# Altium integrated library Capacitor - Aluminium TH.IntLib: 4591 symbols (part 42 of 68)
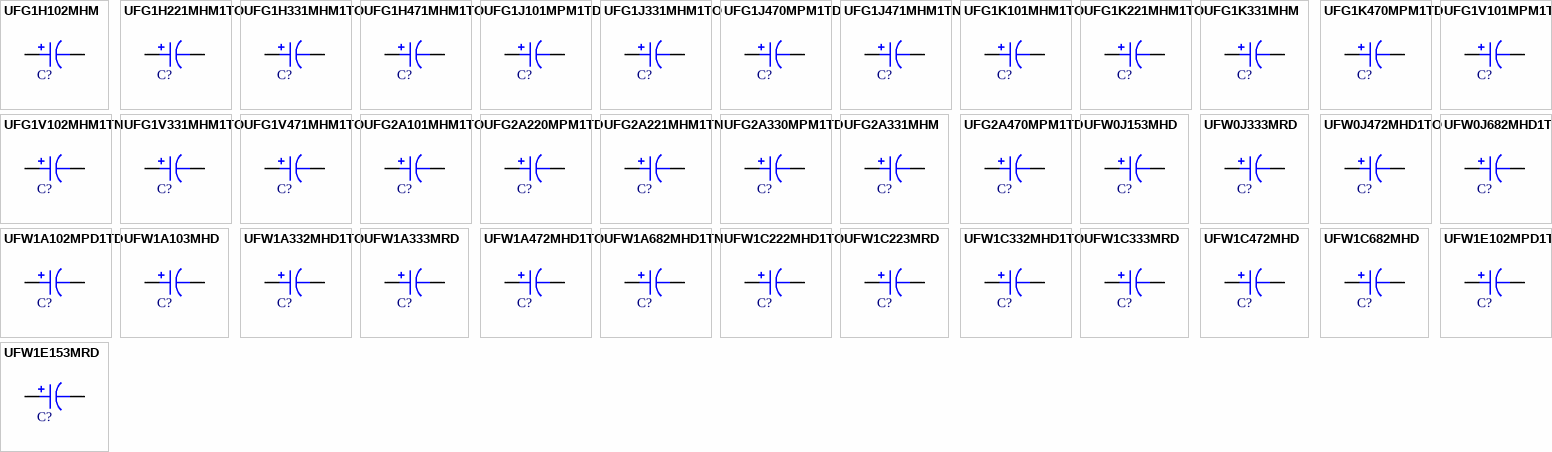
[diagram p155: symbols UFG1H102MHM to UFW1E153MRD]

## UFG1V331MHM1TO
designator C?, comment 330uF  (value not drawn)
CAP ALUM 330UF 20% 35V RADIAL; Part Number: UFG1V331MHM1TO; Manufacturer: Nichicon; TemperatureRange: -40C ~ 85C; Type: Polar; Ripple Current: 446mA; Value: 330uF; PartId: 23405; Supplier 1: Digi-Key; Supplier Part Number 1: 493-10913-1-ND; ComponentLink1Description: Datasheet; ComponentLink1URL: http://nichicon-us.com/english/products/pdfs/e-ufg.pdf; ComponentLink2Description: Digi-Key Listing; ComponentLink2URL: https://www.digikey.com/product-detail/en/nichicon/UFG1V331MHM1TO/493-10913-1-ND/4317840; Tolerance: 20%; Voltage: 35V; Price: 0.98; Device Package: Radial, Can, 12.5mm
footprint CAP AL TH D12.5 L5 H22
pins: 1, 2

## UFG1V471MHM1TO
designator C?, comment 470uF  (value not drawn)
CAP ALUM 470UF 20% 35V RADIAL; Part Number: UFG1V471MHM1TO; Manufacturer: Nichicon; TemperatureRange: -40C ~ 85C; Type: Polar; Ripple Current: 590mA; Value: 470uF; PartId: 24032; Supplier 1: Digi-Key; Supplier Part Number 1: 493-10906-1-ND; ComponentLink1Description: Datasheet; ComponentLink1URL: http://nichicon-us.com/english/products/pdfs/e-ufg.pdf; ComponentLink2Description: Digi-Key Listing; ComponentLink2URL: https://www.digikey.com/product-detail/en/nichicon/UFG1V471MHM1TO/493-10906-1-ND/4317833; Tolerance: 20%; Voltage: 35V; Price: 1.1; Device Package: Radial, Can, 12.5mm
footprint CAP AL TH D12.5 L5 H27
pins: 1, 2

## UFG2A101MHM1TO
designator C?, comment 100uF  (value not drawn)
CAP ALUM 100UF 20% 100V RADIAL; Part Number: UFG2A101MHM1TO; Manufacturer: Nichicon; TemperatureRange: -40C ~ 85C; Type: Polar; Ripple Current: 300mA; Value: 100uF; PartId: 23406; Supplier 1: Digi-Key; Supplier Part Number 1: 493-10878-1-ND; ComponentLink1Description: Datasheet; ComponentLink1URL: http://nichicon-us.com/english/products/pdfs/e-ufg.pdf; ComponentLink2Description: Digi-Key Listing; ComponentLink2URL: https://www.digikey.com/product-detail/en/nichicon/UFG2A101MHM1TO/493-10878-1-ND/4318072; Tolerance: 20%; Voltage: 100V; Price: 0.98; Device Package: Radial, Can, 12.5mm
footprint CAP AL TH D12.5 L5 H22
pins: 1, 2

## UFG2A220MPM1TD
designator C?, comment 22uF  (value not drawn)
CAP ALUM 22UF 20% 100V RADIAL; Part Number: UFG2A220MPM1TD; Manufacturer: Nichicon; TemperatureRange: -40C ~ 85C; Type: Polar; Ripple Current: 110mA; Value: 22uF; PartId: 24615; Supplier 1: Digi-Key; Supplier Part Number 1: 493-10871-3-ND; ComponentLink1Description: Datasheet; ComponentLink1URL: http://nichicon-us.com/english/products/pdfs/e-ufg.pdf; ComponentLink2Description: Digi-Key Listing; ComponentLink2URL: https://www.digikey.com/product-detail/en/nichicon/UFG2A220MPM1TD/493-10871-3-ND/4318033; Tolerance: 20%; Voltage: 100V; Price: 0.1976; Device Package: Radial, Can, 10mm
footprint CAP AL TH D10 L5 H14.5
pins: 1, 2

## UFG2A221MHM1TN
designator C?, comment 220uF  (value not drawn)
CAP ALUM 220UF 20% 100V RADIAL; Part Number: UFG2A221MHM1TN; Manufacturer: Nichicon; TemperatureRange: -40C ~ 85C; Type: Polar; Ripple Current: 549mA; Value: 220uF; PartId: 26789; Supplier 1: Digi-Key; Supplier Part Number 1: 493-10882-3-ND; ComponentLink1Description: Datasheet; ComponentLink1URL: http://nichicon-us.com/english/products/pdfs/e-ufg.pdf; ComponentLink2Description: Digi-Key Listing; ComponentLink2URL: https://www.digikey.com/product-detail/en/nichicon/UFG2A221MHM1TN/493-10882-3-ND/4318044; Tolerance: 20%; Voltage: 100V; Price: 0.6726; Device Package: Radial, Can, 16mm
footprint CAP AL TH D16 L7.5 H27
pins: 1, 2

## UFG2A330MPM1TD
designator C?, comment 33uF  (value not drawn)
CAP ALUM 33UF 20% 100V RADIAL; Part Number: UFG2A330MPM1TD; Manufacturer: Nichicon; TemperatureRange: -40C ~ 85C; Type: Polar; Ripple Current: 150mA; Value: 33uF; PartId: 25114; Supplier 1: Digi-Key; Supplier Part Number 1: 493-10873-3-ND; ComponentLink1Description: Datasheet; ComponentLink1URL: http://nichicon-us.com/english/products/pdfs/e-ufg.pdf; ComponentLink2Description: Digi-Key Listing; ComponentLink2URL: https://www.digikey.com/product-detail/en/nichicon/UFG2A330MPM1TD/493-10873-3-ND/4318035; Tolerance: 20%; Voltage: 100V; Price: 0.3093; Device Package: Radial, Can, 10mm
footprint CAP AL TH D10 L5 H17.5
pins: 1, 2

## UFG2A331MHM
designator C?, comment 330uF  (value not drawn)
CAP ALUM 330UF 20% 100V RADIAL; Part Number: UFG2A331MHM; Manufacturer: Nichicon; TemperatureRange: -40C ~ 85C; Type: Polar; Ripple Current: 734mA; Value: 330uF; PartId: 27066; Supplier 1: Digi-Key; Supplier Part Number 1: 493-10901-ND; ComponentLink1Description: Datasheet; ComponentLink1URL: http://nichicon-us.com/english/products/pdfs/e-ufg.pdf; ComponentLink2Description: Digi-Key Listing; ComponentLink2URL: https://www.digikey.com/product-detail/en/nichicon/UFG2A331MHM/493-10901-ND/4318014; Tolerance: 20%; Voltage: 100V; Price: 1.62; Device Package: Radial, Can, 16mm
footprint CAP AL TH D16 L7.5 H33.5
pins: 1, 2

## UFG2A470MPM1TD
designator C?, comment 47uF  (value not drawn)
CAP ALUM 47UF 20% 100V RADIAL; Part Number: UFG2A470MPM1TD; Manufacturer: Nichicon; TemperatureRange: -40C ~ 85C; Type: Polar; Ripple Current: 190mA; Value: 47uF; PartId: 25819; Supplier 1: Digi-Key; Supplier Part Number 1: 493-10875-3-ND; ComponentLink1Description: Datasheet; ComponentLink1URL: http://nichicon-us.com/english/products/pdfs/e-ufg.pdf; ComponentLink2Description: Digi-Key Listing; ComponentLink2URL: https://www.digikey.com/product-detail/en/nichicon/UFG2A470MPM1TD/493-10875-3-ND/4318037; Tolerance: 20%; Voltage: 100V; Price: 0.3374; Device Package: Radial, Can, 10mm
footprint CAP AL TH D10 L5 H22
pins: 1, 2

## UFW0J153MHD
designator C?, comment 15000uF  (value not drawn)
CAP ALUM 15000UF 20% 6.3V RADIAL; Part Number: UFW0J153MHD; Manufacturer: Nichicon; TemperatureRange: -40C ~ 85C; Type: Polar; Ripple Current: 2.55A @ 120Hz; Value: 15000uF; PartId: 27380; Supplier 1: Digi-Key; Supplier Part Number 1: 493-10953-ND; ComponentLink1Description: Datasheet; ComponentLink1URL: http://nichicon-us.com/english/products/pdfs/e-ufw.pdf; ComponentLink2Description: Digi-Key Listing; ComponentLink2URL: https://www.digikey.com/product-detail/en/nichicon/UFW0J153MHD/493-10953-ND/1964090; Tolerance: 20%; Voltage: 6.3V; Price: 1.82; Device Package: Radial, Can, 16mm
footprint CAP AL TH D16 L7.5 H37
pins: 1, 2

## UFW0J333MRD
designator C?, comment 33000uF  (value not drawn)
CAP ALUM 33000UF 20% 6.3V RADIAL; Part Number: UFW0J333MRD; Manufacturer: Nichicon; TemperatureRange: -40C ~ 85C; Type: Polar; Ripple Current: 3.9A @ 120Hz; Value: 33000uF; PartId: 27635; Supplier 1: Digi-Key; Supplier Part Number 1: 493-10958-ND; ComponentLink1Description: Datasheet; ComponentLink1URL: http://nichicon-us.com/english/products/pdfs/e-ufw.pdf; ComponentLink2Description: Digi-Key Listing; ComponentLink2URL: https://www.digikey.com/product-detail/en/nichicon/UFW0J333MRD/493-10958-ND/1964092; Tolerance: 20%; Voltage: 6.3V; Price: 3.78; Device Package: Radial, Can, 22mm
footprint CAP AL TH D22 L10 H53
pins: 1, 2

## UFW0J472MHD1TO
designator C?, comment 4700uF  (value not drawn)
CAP ALUM 4700UF 20% 6.3V RADIAL; Part Number: UFW0J472MHD1TO; Manufacturer: Nichicon; TemperatureRange: -40C ~ 85C; Type: Polar; Ripple Current: 1.35A; Value: 4700uF; PartId: 23365; Supplier 1: Digi-Key; Supplier Part Number 1: 493-10960-1-ND; ComponentLink1Description: Datasheet; ComponentLink1URL: http://nichicon-us.com/english/products/pdfs/e-ufw.pdf; ComponentLink2Description: Digi-Key Listing; ComponentLink2URL: https://www.digikey.com/product-detail/en/nichicon/UFW0J472MHD1TO/493-10960-1-ND/4317884; Tolerance: 20%; Voltage: 6.3V; Price: 0.87; Device Package: Radial, Can, 12.5mm
footprint CAP AL TH D12.5 L5 H22
pins: 1, 2

## UFW0J682MHD1TO
designator C?, comment 6800uF  (value not drawn)
CAP ALUM 6800UF 20% 6.3V RADIAL; Part Number: UFW0J682MHD1TO; Manufacturer: Nichicon; TemperatureRange: -40C ~ 85C; Type: Polar; Ripple Current: 1.6A; Value: 6800uF; PartId: 24147; Supplier 1: Digi-Key; Supplier Part Number 1: 493-10961-1-ND; ComponentLink1Description: Datasheet; ComponentLink1URL: http://nichicon-us.com/english/products/pdfs/e-ufw.pdf; ComponentLink2Description: Digi-Key Listing; ComponentLink2URL: https://www.digikey.com/product-detail/en/nichicon/UFW0J682MHD1TO/493-10961-1-ND/4317885; Tolerance: 20%; Voltage: 6.3V; Price: 1.49; Device Package: Radial, Can, 12.5mm
footprint CAP AL TH D12.5 L5 H27
pins: 1, 2

## UFW1A102MPD1TD
designator C?, comment 1000uF  (value not drawn)
CAP ALUM 1000UF 20% 10V RADIAL; Part Number: UFW1A102MPD1TD; Manufacturer: Nichicon; TemperatureRange: -40C ~ 85C; Type: Polar; Ripple Current: 630mA @ 120Hz; Value: 1000uF; PartId: 24501; Supplier 1: Digi-Key; Supplier Part Number 1: 493-10963-3-ND; ComponentLink1Description: Datasheet; ComponentLink1URL: http://nichicon-us.com/english/products/pdfs/e-ufw.pdf; ComponentLink2Description: Digi-Key Listing; ComponentLink2URL: https://www.digikey.com/product-detail/en/nichicon/UFW1A102MPD1TD/493-10963-3-ND/4317489; Tolerance: 20%; Voltage: 10V; Price: 0.1136; Device Package: Radial, Can, 10mm
footprint CAP AL TH D10 L5 H14.5
pins: 1, 2

## UFW1A103MHD
designator C?, comment 10000uF  (value not drawn)
CAP ALUM 10000UF 20% 10V RADIAL; Part Number: UFW1A103MHD; Manufacturer: Nichicon; TemperatureRange: -40C ~ 85C; Type: Polar; Ripple Current: 2.5A @ 120Hz; Value: 10000uF; PartId: 27379; Supplier 1: Digi-Key; Supplier Part Number 1: 493-10964-ND; ComponentLink1Description: Datasheet; ComponentLink1URL: http://nichicon-us.com/english/products/pdfs/e-ufw.pdf; ComponentLink2Description: Digi-Key Listing; ComponentLink2URL: https://www.digikey.com/product-detail/en/nichicon/UFW1A103MHD/493-10964-ND/1964102; Tolerance: 20%; Voltage: 10V; Price: 1.82; Device Package: Radial, Can, 16mm
footprint CAP AL TH D16 L7.5 H37
pins: 1, 2

## UFW1A332MHD1TO
designator C?, comment 3300uF  (value not drawn)
CAP ALUM 3300UF 20% 10V RADIAL; Part Number: UFW1A332MHD1TO; Manufacturer: Nichicon; TemperatureRange: -40C ~ 85C; Type: Polar; Ripple Current: 1.42A; Value: 3300uF; PartId: 23284; Supplier 1: Digi-Key; Supplier Part Number 1: 493-10970-1-ND; ComponentLink1Description: Datasheet; ComponentLink1URL: http://nichicon-us.com/english/products/pdfs/e-ufw.pdf; ComponentLink2Description: Digi-Key Listing; ComponentLink2URL: https://www.digikey.com/product-detail/en/nichicon/UFW1A332MHD1TO/493-10970-1-ND/4317891; Tolerance: 20%; Voltage: 10V; Price: 0.78; Device Package: Radial, Can, 12.5mm
footprint CAP AL TH D12.5 L5 H22
pins: 1, 2

## UFW1A333MRD
designator C?, comment 33000uF  (value not drawn)
CAP ALUM 33000UF 20% 10V RADIAL; Part Number: UFW1A333MRD; Manufacturer: Nichicon; TemperatureRange: -40C ~ 85C; Type: Polar; Ripple Current: 4.5A @ 120Hz; Value: 33000uF; PartId: 27660; Supplier 1: Digi-Key; Supplier Part Number 1: 493-10971-ND; ComponentLink1Description: Datasheet; ComponentLink1URL: http://nichicon-us.com/english/products/pdfs/e-ufw.pdf; ComponentLink2Description: Digi-Key Listing; ComponentLink2URL: https://www.digikey.com/product-detail/en/nichicon/UFW1A333MRD/493-10971-ND/1964105; Tolerance: 20%; Voltage: 10V; Price: 4.6; Device Package: Radial, Can, 22mm
footprint CAP AL TH D22 L10 H53
pins: 1, 2

## UFW1A472MHD1TO
designator C?, comment 4700uF  (value not drawn)
CAP ALUM 4700UF 20% 10V RADIAL; Part Number: UFW1A472MHD1TO; Manufacturer: Nichicon; TemperatureRange: -40C ~ 85C; Type: Polar; Ripple Current: 1.8A; Value: 4700uF; PartId: 24098; Supplier 1: Digi-Key; Supplier Part Number 1: 493-10973-1-ND; ComponentLink1Description: Datasheet; ComponentLink1URL: http://nichicon-us.com/english/products/pdfs/e-ufw.pdf; ComponentLink2Description: Digi-Key Listing; ComponentLink2URL: https://www.digikey.com/product-detail/en/nichicon/UFW1A472MHD1TO/493-10973-1-ND/4317893; Tolerance: 20%; Voltage: 10V; Price: 1.3; Device Package: Radial, Can, 12.5mm
footprint CAP AL TH D12.5 L5 H27
pins: 1, 2

## UFW1A682MHD1TN
designator C?, comment 6800uF  (value not drawn)
CAP ALUM 6800UF 20% 10V RADIAL; Part Number: UFW1A682MHD1TN; Manufacturer: Nichicon; TemperatureRange: -40C ~ 85C; Type: Polar; Ripple Current: 2.15A @ 120Hz; Value: 6800uF; PartId: 26752; Supplier 1: Digi-Key; Supplier Part Number 1: 493-10974-3-ND; ComponentLink1Description: Datasheet; ComponentLink1URL: http://nichicon-us.com/english/products/pdfs/e-ufw.pdf; ComponentLink2Description: Digi-Key Listing; ComponentLink2URL: https://www.digikey.com/product-detail/en/nichicon/UFW1A682MHD1TN/493-10974-3-ND/4317496; Tolerance: 20%; Voltage: 10V; Price: 0.5558; Device Package: Radial, Can, 16mm
footprint CAP AL TH D16 L7.5 H27
pins: 1, 2

## UFW1C222MHD1TO
designator C?, comment 2200uF  (value not drawn)
CAP ALUM 2200UF 20% 16V RADIAL; Part Number: UFW1C222MHD1TO; Manufacturer: Nichicon; TemperatureRange: -40C ~ 85C; Type: Polar; Ripple Current: 1.25A; Value: 2200uF; PartId: 23311; Supplier 1: Digi-Key; Supplier Part Number 1: 493-10980-1-ND; ComponentLink1Description: Datasheet; ComponentLink1URL: http://nichicon-us.com/english/products/pdfs/e-ufw.pdf; ComponentLink2Description: Digi-Key Listing; ComponentLink2URL: https://www.digikey.com/product-detail/en/nichicon/UFW1C222MHD1TO/493-10980-1-ND/4317898; Tolerance: 20%; Voltage: 16V; Price: 0.81; Device Package: Radial, Can, 12.5mm
footprint CAP AL TH D12.5 L5 H22
pins: 1, 2

## UFW1C223MRD
designator C?, comment 22000uF  (value not drawn)
CAP ALUM 22000UF 20% 16V RADIAL; Part Number: UFW1C223MRD; Manufacturer: Nichicon; TemperatureRange: -40C ~ 85C; Type: Polar; Ripple Current: 4.2A @ 120Hz; Value: 22000uF; PartId: 27656; Supplier 1: Digi-Key; Supplier Part Number 1: 493-10981-ND; ComponentLink1Description: Datasheet; ComponentLink1URL: http://nichicon-us.com/english/products/pdfs/e-ufw.pdf; ComponentLink2Description: Digi-Key Listing; ComponentLink2URL: https://www.digikey.com/product-detail/en/nichicon/UFW1C223MRD/493-10981-ND/1964116; Tolerance: 20%; Voltage: 16V; Price: 4.43; Device Package: Radial, Can, 22mm
footprint CAP AL TH D22 L10 H53
pins: 1, 2

## UFW1C332MHD1TO
designator C?, comment 3300uF  (value not drawn)
CAP ALUM 3300UF 20% 16V RADIAL; Part Number: UFW1C332MHD1TO; Manufacturer: Nichicon; TemperatureRange: -40C ~ 85C; Type: Polar; Ripple Current: 1.7A; Value: 3300uF; PartId: 24062; Supplier 1: Digi-Key; Supplier Part Number 1: 493-10983-1-ND; ComponentLink1Description: Datasheet; ComponentLink1URL: http://nichicon-us.com/english/products/pdfs/e-ufw.pdf; ComponentLink2Description: Digi-Key Listing; ComponentLink2URL: https://www.digikey.com/product-detail/en/nichicon/UFW1C332MHD1TO/493-10983-1-ND/4317900; Tolerance: 20%; Voltage: 16V; Price: 1.18; Device Package: Radial, Can, 12.5mm
footprint CAP AL TH D12.5 L5 H27
pins: 1, 2

## UFW1C333MRD
designator C?, comment 33000uF  (value not drawn)
CAP ALUM 33000UF 20% 16V RADIAL; Part Number: UFW1C333MRD; Manufacturer: Nichicon; TemperatureRange: -40C ~ 85C; Type: Polar; Ripple Current: 4.8A @ 120Hz; Value: 33000uF; PartId: 27554; Supplier 1: Digi-Key; Supplier Part Number 1: 493-10984-ND; ComponentLink1Description: Datasheet; ComponentLink1URL: http://nichicon-us.com/english/products/pdfs/e-ufw.pdf; ComponentLink2Description: Digi-Key Listing; ComponentLink2URL: https://www.digikey.com/product-detail/en/nichicon/UFW1C333MRD/493-10984-ND/1964117; Tolerance: 20%; Voltage: 16V; Price: 4.72; Device Package: Radial, Can, 25mm
footprint CAP AL TH D25 L12.5 H52
pins: 1, 2

## UFW1C472MHD
designator C?, comment 4700uF  (value not drawn)
CAP ALUM 4700UF 20% 16V RADIAL; Part Number: UFW1C472MHD; Manufacturer: Nichicon; TemperatureRange: -40C ~ 85C; Type: Polar; Ripple Current: 2.1A @ 120Hz; Value: 4700uF; PartId: 26541; Supplier 1: Digi-Key; Supplier Part Number 1: 493-3178-ND; ComponentLink1Description: Datasheet; ComponentLink1URL: http://nichicon-us.com/english/products/pdfs/e-ufw.pdf; ComponentLink2Description: Digi-Key Listing; ComponentLink2URL: https://www.digikey.com/product-detail/en/nichicon/UFW1C472MHD/493-3178-ND/1965200; Tolerance: 20%; Voltage: 16V; Price: 1; Device Package: Radial, Can, 16mm
footprint CAP AL TH D16 L7.5 H26.5
pins: 1, 2

## UFW1C682MHD
designator C?, comment 6800uF  (value not drawn)
CAP ALUM 6800UF 20% 16V RADIAL; Part Number: UFW1C682MHD; Manufacturer: Nichicon; TemperatureRange: -40C ~ 85C; Type: Polar; Ripple Current: 2.5A @ 120Hz; Value: 6800uF; PartId: 27356; Supplier 1: Digi-Key; Supplier Part Number 1: 493-10987-ND; ComponentLink1Description: Datasheet; ComponentLink1URL: http://nichicon-us.com/english/products/pdfs/e-ufw.pdf; ComponentLink2Description: Digi-Key Listing; ComponentLink2URL: https://www.digikey.com/product-detail/en/nichicon/UFW1C682MHD/493-10987-ND/1964113; Tolerance: 20%; Voltage: 16V; Price: 1.77; Device Package: Radial, Can, 16mm
footprint CAP AL TH D16 L7.5 H37
pins: 1, 2

## UFW1E102MPD1TD
designator C?, comment 1000uF  (value not drawn)
CAP ALUM 1000UF 20% 25V RADIAL; Part Number: UFW1E102MPD1TD; Manufacturer: Nichicon; TemperatureRange: -40C ~ 85C; Type: Polar; Ripple Current: 950mA @ 120Hz; Value: 1000uF; PartId: 25774; Supplier 1: Digi-Key; Supplier Part Number 1: 493-10989-3-ND; ComponentLink1Description: Datasheet; ComponentLink1URL: http://nichicon-us.com/english/products/pdfs/e-ufw.pdf; ComponentLink2Description: Digi-Key Listing; ComponentLink2URL: https://www.digikey.com/product-detail/en/nichicon/UFW1E102MPD1TD/493-10989-3-ND/4317505; Tolerance: 20%; Voltage: 25V; Price: 0.2386; Device Package: Radial, Can, 10mm
footprint CAP AL TH D10 L5 H22
pins: 1, 2

## UFW1E153MRD
designator C?, comment 15000uF  (value not drawn)
CAP ALUM 15000UF 20% 25V RADIAL; Part Number: UFW1E153MRD; Manufacturer: Nichicon; TemperatureRange: -40C ~ 85C; Type: Polar; Ripple Current: 3.8A @ 120Hz; Value: 15000uF; PartId: 27647; Supplier 1: Digi-Key; Supplier Part Number 1: 493-10991-ND; ComponentLink1Description: Datasheet; ComponentLink1URL: http://nichicon-us.com/english/products/pdfs/e-ufw.pdf; ComponentLink2Description: Digi-Key Listing; ComponentLink2URL: https://www.digikey.com/product-detail/en/nichicon/UFW1E153MRD/493-10991-ND/1964127; Tolerance: 20%; Voltage: 25V; Price: 4.21; Device Package: Radial, Can, 22mm
footprint CAP AL TH D22 L10 H53
pins: 1, 2

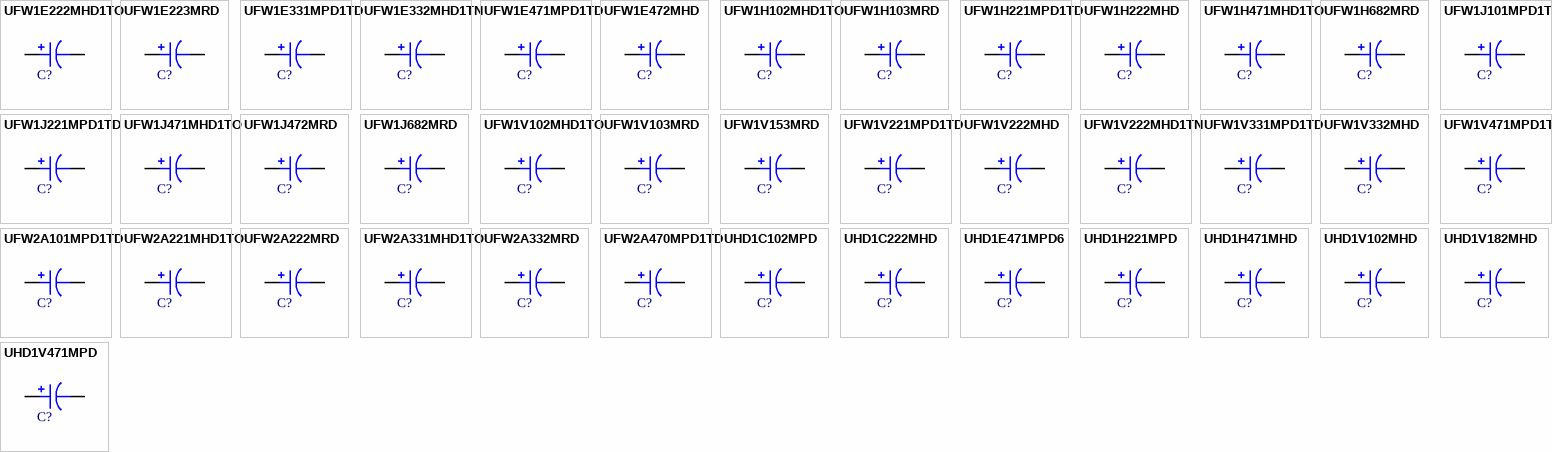
[diagram p69: symbols UFW1E222MHD1TO to UHD1V471MPD]

## UFW1E222MHD1TO
designator C?, comment 2200uF  (value not drawn)
CAP ALUM 2200UF 20% 25V RADIAL; Part Number: UFW1E222MHD1TO; Manufacturer: Nichicon; TemperatureRange: -40C ~ 85C; Type: Polar; Ripple Current: 1.55A; Value: 2200uF; PartId: 24166; Supplier 1: Digi-Key; Supplier Part Number 1: 493-10993-1-ND; ComponentLink1Description: Datasheet; ComponentLink1URL: http://nichicon-us.com/english/products/pdfs/e-ufw.pdf; ComponentLink2Description: Digi-Key Listing; ComponentLink2URL: https://www.digikey.com/product-detail/en/nichicon/UFW1E222MHD1TO/493-10993-1-ND/4317905; Tolerance: 20%; Voltage: 25V; Price: 1.63; Device Package: Radial, Can, 12.5mm
footprint CAP AL TH D12.5 L5 H27
pins: 1, 2

## UFW1E223MRD
designator C?, comment 22000uF  (value not drawn)
CAP ALUM 22000UF 20% 25V RADIAL; Part Number: UFW1E223MRD; Manufacturer: Nichicon; TemperatureRange: -40C ~ 85C; Type: Polar; Ripple Current: 4.5A @ 120Hz; Value: 22000uF; PartId: 27536; Supplier 1: Digi-Key; Supplier Part Number 1: 493-10994-ND; ComponentLink1Description: Datasheet; ComponentLink1URL: http://nichicon-us.com/english/products/pdfs/e-ufw.pdf; ComponentLink2Description: Digi-Key Listing; ComponentLink2URL: https://www.digikey.com/product-detail/en/nichicon/UFW1E223MRD/493-10994-ND/1964128; Tolerance: 20%; Voltage: 25V; Price: 4.97; Device Package: Radial, Can, 25mm
footprint CAP AL TH D25 L12.5 H52
pins: 1, 2

## UFW1E331MPD1TD
designator C?, comment 330uF  (value not drawn)
CAP ALUM 330UF 20% 25V RADIAL; Part Number: UFW1E331MPD1TD; Manufacturer: Nichicon; TemperatureRange: -40C ~ 85C; Type: Polar; Ripple Current: 420mA; Value: 330uF; PartId: 24935; Supplier 1: Digi-Key; Supplier Part Number 1: 493-10995-1-ND; ComponentLink1Description: Datasheet; ComponentLink1URL: http://nichicon-us.com/english/products/pdfs/e-ufw.pdf; ComponentLink2Description: Digi-Key Listing; ComponentLink2URL: https://www.digikey.com/product-detail/en/nichicon/UFW1E331MPD1TD/493-10995-1-ND/4317906; Tolerance: 20%; Voltage: 25V; Price: 0.5; Device Package: Radial, Can, 10mm
footprint CAP AL TH D10 L5 H14.5
pins: 1, 2

## UFW1E332MHD1TN
designator C?, comment 3300uF  (value not drawn)
CAP ALUM 3300UF 20% 25V RADIAL; Part Number: UFW1E332MHD1TN; Manufacturer: Nichicon; TemperatureRange: -40C ~ 85C; Type: Polar; Ripple Current: 1.95A @ 120Hz; Value: 3300uF; PartId: 26750; Supplier 1: Digi-Key; Supplier Part Number 1: 493-10996-3-ND; ComponentLink1Description: Datasheet; ComponentLink1URL: http://nichicon-us.com/english/products/pdfs/e-ufw.pdf; ComponentLink2Description: Digi-Key Listing; ComponentLink2URL: https://www.digikey.com/product-detail/en/nichicon/UFW1E332MHD1TN/493-10996-3-ND/4317509; Tolerance: 20%; Voltage: 25V; Price: 0.524; Device Package: Radial, Can, 16mm
footprint CAP AL TH D16 L7.5 H27
pins: 1, 2

## UFW1E471MPD1TD
designator C?, comment 470uF  (value not drawn)
CAP ALUM 470UF 20% 25V RADIAL; Part Number: UFW1E471MPD1TD; Manufacturer: Nichicon; TemperatureRange: -40C ~ 85C; Type: Polar; Ripple Current: 530mA @ 120Hz; Value: 470uF; PartId: 24531; Supplier 1: Digi-Key; Supplier Part Number 1: 493-10998-3-ND; ComponentLink1Description: Datasheet; ComponentLink1URL: http://nichicon-us.com/english/products/pdfs/e-ufw.pdf; ComponentLink2Description: Digi-Key Listing; ComponentLink2URL: https://www.digikey.com/product-detail/en/nichicon/UFW1E471MPD1TD/493-10998-3-ND/4317511; Tolerance: 20%; Voltage: 25V; Price: 0.144; Device Package: Radial, Can, 10mm
footprint CAP AL TH D10 L5 H14.5
pins: 1, 2

## UFW1E472MHD
designator C?, comment 4700uF  (value not drawn)
CAP ALUM 4700UF 20% 25V RADIAL; Part Number: UFW1E472MHD; Manufacturer: Nichicon; TemperatureRange: -40C ~ 85C; Type: Polar; Ripple Current: 2.36A @ 120Hz; Value: 4700uF; PartId: 27166; Supplier 1: Digi-Key; Supplier Part Number 1: 493-10999-ND; ComponentLink1Description: Datasheet; ComponentLink1URL: http://nichicon-us.com/english/products/pdfs/e-ufw.pdf; ComponentLink2Description: Digi-Key Listing; ComponentLink2URL: https://www.digikey.com/product-detail/en/nichicon/UFW1E472MHD/493-10999-ND/1964124; Tolerance: 20%; Voltage: 25V; Price: 1.88; Device Package: Radial, Can, 16mm
footprint CAP AL TH D16 L7.5 H33.5
pins: 1, 2

## UFW1H102MHD1TO
designator C?, comment 1000uF  (value not drawn)
CAP ALUM 1000UF 20% 50V RADIAL; Part Number: UFW1H102MHD1TO; Manufacturer: Nichicon; TemperatureRange: -40C ~ 85C; Type: Polar; Ripple Current: 1.3A @ 120Hz; Value: 1000uF; PartId: 23829; Supplier 1: Digi-Key; Supplier Part Number 1: 493-11005-3-ND; ComponentLink1Description: Datasheet; ComponentLink1URL: http://nichicon-us.com/english/products/pdfs/e-ufw.pdf; ComponentLink2Description: Digi-Key Listing; ComponentLink2URL: https://www.digikey.com/product-detail/en/nichicon/UFW1H102MHD1TO/493-11005-3-ND/4317516; Tolerance: 20%; Voltage: 50V; Price: 0.4595; Device Package: Radial, Can, 12.5mm
footprint CAP AL TH D12.5 L5 H27
pins: 1, 2

## UFW1H103MRD
designator C?, comment 10000uF  (value not drawn)
CAP ALUM 10000UF 20% 50V RADIAL; Part Number: UFW1H103MRD; Manufacturer: Nichicon; TemperatureRange: -40C ~ 85C; Type: Polar; Ripple Current: 4A @ 120Hz; Value: 10000uF; PartId: 27508; Supplier 1: Digi-Key; Supplier Part Number 1: 493-3183-ND; ComponentLink1Description: Datasheet; ComponentLink1URL: http://nichicon-us.com/english/products/pdfs/e-ufw.pdf; ComponentLink2Description: Digi-Key Listing; ComponentLink2URL: https://www.digikey.com/product-detail/en/nichicon/UFW1H103MRD/493-3183-ND/1965205; Tolerance: 20%; Voltage: 50V; Price: 4.7; Device Package: Radial, Can, 25mm
footprint CAP AL TH D25 L12.5 H52
pins: 1, 2

## UFW1H221MPD1TD
designator C?, comment 220uF  (value not drawn)
CAP ALUM 220UF 20% 50V RADIAL; Part Number: UFW1H221MPD1TD; Manufacturer: Nichicon; TemperatureRange: -40C ~ 85C; Type: Polar; Ripple Current: 410mA @ 120Hz; Value: 220uF; PartId: 24525; Supplier 1: Digi-Key; Supplier Part Number 1: 493-11007-3-ND; ComponentLink1Description: Datasheet; ComponentLink1URL: http://nichicon-us.com/english/products/pdfs/e-ufw.pdf; ComponentLink2Description: Digi-Key Listing; ComponentLink2URL: https://www.digikey.com/product-detail/en/nichicon/UFW1H221MPD1TD/493-11007-3-ND/4317518; Tolerance: 20%; Voltage: 50V; Price: 0.1414; Device Package: Radial, Can, 10mm
footprint CAP AL TH D10 L5 H14.5
pins: 1, 2

## UFW1H222MHD
designator C?, comment 2200uF  (value not drawn)
CAP ALUM 2200UF 20% 50V RADIAL; Part Number: UFW1H222MHD; Manufacturer: Nichicon; TemperatureRange: -40C ~ 85C; Type: Polar; Ripple Current: 2.09A @ 120Hz; Value: 2200uF; PartId: 27377; Supplier 1: Digi-Key; Supplier Part Number 1: 493-11008-ND; ComponentLink1Description: Datasheet; ComponentLink1URL: http://nichicon-us.com/english/products/pdfs/e-ufw.pdf; ComponentLink2Description: Digi-Key Listing; ComponentLink2URL: https://www.digikey.com/product-detail/en/nichicon/UFW1H222MHD/493-11008-ND/1964156; Tolerance: 20%; Voltage: 50V; Price: 1.82; Device Package: Radial, Can, 16mm
footprint CAP AL TH D16 L7.5 H37
pins: 1, 2

## UFW1H471MHD1TO
designator C?, comment 470uF  (value not drawn)
CAP ALUM 470UF 20% 50V RADIAL; Part Number: UFW1H471MHD1TO; Manufacturer: Nichicon; TemperatureRange: -40C ~ 85C; Type: Polar; Ripple Current: 760mA; Value: 470uF; PartId: 23299; Supplier 1: Digi-Key; Supplier Part Number 1: 493-11015-1-ND; ComponentLink1Description: Datasheet; ComponentLink1URL: http://nichicon-us.com/english/products/pdfs/e-ufw.pdf; ComponentLink2Description: Digi-Key Listing; ComponentLink2URL: https://www.digikey.com/product-detail/en/nichicon/UFW1H471MHD1TO/493-11015-1-ND/4317922; Tolerance: 20%; Voltage: 50V; Price: 0.8; Device Package: Radial, Can, 12.5mm
footprint CAP AL TH D12.5 L5 H22
pins: 1, 2

## UFW1H682MRD
designator C?, comment 6800uF  (value not drawn)
CAP ALUM 6800UF 20% 50V RADIAL; Part Number: UFW1H682MRD; Manufacturer: Nichicon; TemperatureRange: -40C ~ 85C; Type: Polar; Ripple Current: 3.5A @ 120Hz; Value: 6800uF; PartId: 27621; Supplier 1: Digi-Key; Supplier Part Number 1: 493-11018-ND; ComponentLink1Description: Datasheet; ComponentLink1URL: http://nichicon-us.com/english/products/pdfs/e-ufw.pdf; ComponentLink2Description: Digi-Key Listing; ComponentLink2URL: https://www.digikey.com/product-detail/en/nichicon/UFW1H682MRD/493-11018-ND/1964159; Tolerance: 20%; Voltage: 50V; Price: 3.74; Device Package: Radial, Can, 22mm
footprint CAP AL TH D22 L10 H53
pins: 1, 2

## UFW1J101MPD1TD
designator C?, comment 100uF  (value not drawn)
CAP ALUM 100UF 20% 63V RADIAL; Part Number: UFW1J101MPD1TD; Manufacturer: Nichicon; TemperatureRange: -40C ~ 85C; Type: Polar; Ripple Current: 300mA @ 120Hz; Value: 100uF; PartId: 24556; Supplier 1: Digi-Key; Supplier Part Number 1: 493-11023-3-ND; ComponentLink1Description: Datasheet; ComponentLink1URL: http://nichicon-us.com/english/products/pdfs/e-ufw.pdf; ComponentLink2Description: Digi-Key Listing; ComponentLink2URL: https://www.digikey.com/product-detail/en/nichicon/UFW1J101MPD1TD/493-11023-3-ND/4317529; Tolerance: 20%; Voltage: 63V; Price: 0.1518; Device Package: Radial, Can, 10mm
footprint CAP AL TH D10 L5 H14.5
pins: 1, 2

## UFW1J221MPD1TD
designator C?, comment 220uF  (value not drawn)
CAP ALUM 220UF 20% 63V RADIAL; Part Number: UFW1J221MPD1TD; Manufacturer: Nichicon; TemperatureRange: -40C ~ 85C; Type: Polar; Ripple Current: 470mA @ 120Hz; Value: 220uF; PartId: 25078; Supplier 1: Digi-Key; Supplier Part Number 1: 493-11026-3-ND; ComponentLink1Description: Datasheet; ComponentLink1URL: http://nichicon-us.com/english/products/pdfs/e-ufw.pdf; ComponentLink2Description: Digi-Key Listing; ComponentLink2URL: https://www.digikey.com/product-detail/en/nichicon/UFW1J221MPD1TD/493-11026-3-ND/4317532; Tolerance: 20%; Voltage: 63V; Price: 0.2324; Device Package: Radial, Can, 10mm
footprint CAP AL TH D10 L5 H17.5
pins: 1, 2

## UFW1J471MHD1TO
designator C?, comment 470uF  (value not drawn)
CAP ALUM 470UF 20% 63V RADIAL; Part Number: UFW1J471MHD1TO; Manufacturer: Nichicon; TemperatureRange: -40C ~ 85C; Type: Polar; Ripple Current: 880mA; Value: 470uF; PartId: 23318; Supplier 1: Digi-Key; Supplier Part Number 1: 493-11032-1-ND; ComponentLink1Description: Datasheet; ComponentLink1URL: http://nichicon-us.com/english/products/pdfs/e-ufw.pdf; ComponentLink2Description: Digi-Key Listing; ComponentLink2URL: https://www.digikey.com/product-detail/en/nichicon/UFW1J471MHD1TO/493-11032-1-ND/4317935; Tolerance: 20%; Voltage: 63V; Price: 0.82; Device Package: Radial, Can, 12.5mm
footprint CAP AL TH D12.5 L5 H22
pins: 1, 2

## UFW1J472MRD
designator C?, comment 4700uF  (value not drawn)
CAP ALUM 4700UF 20% 63V RADIAL; Part Number: UFW1J472MRD; Manufacturer: Nichicon; TemperatureRange: -40C ~ 85C; Type: Polar; Ripple Current: 3.4A @ 120Hz; Value: 4700uF; PartId: 27614; Supplier 1: Digi-Key; Supplier Part Number 1: 493-11033-ND; ComponentLink1Description: Datasheet; ComponentLink1URL: http://nichicon-us.com/english/products/pdfs/e-ufw.pdf; ComponentLink2Description: Digi-Key Listing; ComponentLink2URL: https://www.digikey.com/product-detail/en/nichicon/UFW1J472MRD/493-11033-ND/1964171; Tolerance: 20%; Voltage: 63V; Price: 4.18; Device Package: Radial, Can, 22mm
footprint CAP AL TH D22 L10 H53
pins: 1, 2

## UFW1J682MRD
designator C?, comment 6800uF  (value not drawn)
CAP ALUM 6800UF 20% 63V RADIAL; Part Number: UFW1J682MRD; Manufacturer: Nichicon; TemperatureRange: -40C ~ 85C; Type: Polar; Ripple Current: 3.5A @ 120Hz; Value: 6800uF; PartId: 27509; Supplier 1: Digi-Key; Supplier Part Number 1: 493-11034-ND; ComponentLink1Description: Datasheet; ComponentLink1URL: http://nichicon-us.com/english/products/pdfs/e-ufw.pdf; ComponentLink2Description: Digi-Key Listing; ComponentLink2URL: https://www.digikey.com/product-detail/en/nichicon/UFW1J682MRD/493-11034-ND/1964172; Tolerance: 20%; Voltage: 63V; Price: 5.22; Device Package: Radial, Can, 25mm
footprint CAP AL TH D25 L12.5 H52
pins: 1, 2

## UFW1V102MHD1TO
designator C?, comment 1000uF  (value not drawn)
CAP ALUM 1000UF 20% 35V RADIAL; Part Number: UFW1V102MHD1TO; Manufacturer: Nichicon; TemperatureRange: -40C ~ 85C; Type: Polar; Ripple Current: 1.1A @ 120Hz; Value: 1000uF; PartId: 23151; Supplier 1: Digi-Key; Supplier Part Number 1: 493-11036-3-ND; ComponentLink1Description: Datasheet; ComponentLink1URL: http://nichicon-us.com/english/products/pdfs/e-ufw.pdf; ComponentLink2Description: Digi-Key Listing; ComponentLink2URL: https://www.digikey.com/product-detail/en/nichicon/UFW1V102MHD1TO/493-11036-3-ND/4317538; Tolerance: 20%; Voltage: 35V; Price: 0.2969; Device Package: Radial, Can, 12.5mm
footprint CAP AL TH D12.5 L5 H22
pins: 1, 2

## UFW1V103MRD
designator C?, comment 10000uF  (value not drawn)
CAP ALUM 10000UF 20% 35V RADIAL; Part Number: UFW1V103MRD; Manufacturer: Nichicon; TemperatureRange: -40C ~ 85C; Type: Polar; Ripple Current: 3.7A @ 120Hz; Value: 10000uF; PartId: 27625; Supplier 1: Digi-Key; Supplier Part Number 1: 493-11037-ND; ComponentLink1Description: Datasheet; ComponentLink1URL: http://nichicon-us.com/english/products/pdfs/e-ufw.pdf; ComponentLink2Description: Digi-Key Listing; ComponentLink2URL: https://www.digikey.com/product-detail/en/nichicon/UFW1V103MRD/493-11037-ND/1964137; Tolerance: 20%; Voltage: 35V; Price: 4.21; Device Package: Radial, Can, 22mm
footprint CAP AL TH D22 L10 H53
pins: 1, 2

## UFW1V153MRD
designator C?, comment 15000uF  (value not drawn)
CAP ALUM 15000UF 20% 35V RADIAL; Part Number: UFW1V153MRD; Manufacturer: Nichicon; TemperatureRange: -40C ~ 85C; Type: Polar; Ripple Current: 4.3A @ 120Hz; Value: 15000uF; PartId: 27522; Supplier 1: Digi-Key; Supplier Part Number 1: 493-11038-ND; ComponentLink1Description: Datasheet; ComponentLink1URL: http://nichicon-us.com/english/products/pdfs/e-ufw.pdf; ComponentLink2Description: Digi-Key Listing; ComponentLink2URL: https://www.digikey.com/product-detail/en/nichicon/UFW1V153MRD/493-11038-ND/1964138; Tolerance: 20%; Voltage: 35V; Price: 4.7; Device Package: Radial, Can, 25mm
footprint CAP AL TH D25 L12.5 H52
pins: 1, 2

## UFW1V221MPD1TD
designator C?, comment 220uF  (value not drawn)
CAP ALUM 220UF 20% 35V RADIAL; Part Number: UFW1V221MPD1TD; Manufacturer: Nichicon; TemperatureRange: -40C ~ 85C; Type: Polar; Ripple Current: 370mA @ 120Hz; Value: 220uF; PartId: 24522; Supplier 1: Digi-Key; Supplier Part Number 1: 493-11039-3-ND; ComponentLink1Description: Datasheet; ComponentLink1URL: http://nichicon-us.com/english/products/pdfs/e-ufw.pdf; ComponentLink2Description: Digi-Key Listing; ComponentLink2URL: https://www.digikey.com/product-detail/en/nichicon/UFW1V221MPD1TD/493-11039-3-ND/4317539; Tolerance: 20%; Voltage: 35V; Price: 0.1402; Device Package: Radial, Can, 10mm
footprint CAP AL TH D10 L5 H14.5
pins: 1, 2

## UFW1V222MHD
designator C?, comment 2200uF  (value not drawn)
CAP ALUM 2200UF 20% 35V RADIAL; Part Number: UFW1V222MHD; Manufacturer: Nichicon; TemperatureRange: -40C ~ 85C; Type: Polar; Ripple Current: 1.8A @ 120Hz; Value: 2200uF; PartId: 26571; Supplier 1: Digi-Key; Supplier Part Number 1: 493-3181-ND; ComponentLink1Description: Datasheet; ComponentLink1URL: http://nichicon-us.com/english/products/pdfs/e-ufw.pdf; ComponentLink2Description: Digi-Key Listing; ComponentLink2URL: https://www.digikey.com/product-detail/en/nichicon/UFW1V222MHD/493-3181-ND/1965203; Tolerance: 20%; Voltage: 35V; Price: 1.18; Device Package: Radial, Can, 16mm
footprint CAP AL TH D16 L7.5 H26.5
pins: 1, 2

## UFW1V222MHD1TN
designator C?, comment 2200uF  (value not drawn)
CAP ALUM 2200UF 20% 35V RADIAL; Part Number: UFW1V222MHD1TN; Manufacturer: Nichicon; TemperatureRange: -40C ~ 85C; Type: Polar; Ripple Current: 1.8A @ 120Hz; Value: 2200uF; PartId: 26774; Supplier 1: Digi-Key; Supplier Part Number 1: 493-11040-3-ND; ComponentLink1Description: Datasheet; ComponentLink1URL: http://nichicon-us.com/english/products/pdfs/e-ufw.pdf; ComponentLink2Description: Digi-Key Listing; ComponentLink2URL: https://www.digikey.com/product-detail/en/nichicon/UFW1V222MHD1TN/493-11040-3-ND/4317540; Tolerance: 20%; Voltage: 35V; Price: 0.623; Device Package: Radial, Can, 16mm
footprint CAP AL TH D16 L7.5 H27
pins: 1, 2

## UFW1V331MPD1TD
designator C?, comment 330uF  (value not drawn)
CAP ALUM 330UF 20% 35V RADIAL; Part Number: UFW1V331MPD1TD; Manufacturer: Nichicon; TemperatureRange: -40C ~ 85C; Type: Polar; Ripple Current: 470mA @ 120Hz; Value: 330uF; PartId: 24563; Supplier 1: Digi-Key; Supplier Part Number 1: 493-11042-3-ND; ComponentLink1Description: Datasheet; ComponentLink1URL: http://nichicon-us.com/english/products/pdfs/e-ufw.pdf; ComponentLink2Description: Digi-Key Listing; ComponentLink2URL: https://www.digikey.com/product-detail/en/nichicon/UFW1V331MPD1TD/493-11042-3-ND/4317542; Tolerance: 20%; Voltage: 35V; Price: 0.1538; Device Package: Radial, Can, 10mm
footprint CAP AL TH D10 L5 H14.5
pins: 1, 2

## UFW1V332MHD
designator C?, comment 3300uF  (value not drawn)
CAP ALUM 3300UF 20% 35V RADIAL; Part Number: UFW1V332MHD; Manufacturer: Nichicon; TemperatureRange: -40C ~ 85C; Type: Polar; Ripple Current: 2.22A @ 120Hz; Value: 3300uF; PartId: 27378; Supplier 1: Digi-Key; Supplier Part Number 1: 493-11043-ND; ComponentLink1Description: Datasheet; ComponentLink1URL: http://nichicon-us.com/english/products/pdfs/e-ufw.pdf; ComponentLink2Description: Digi-Key Listing; ComponentLink2URL: https://www.digikey.com/product-detail/en/nichicon/UFW1V332MHD/493-11043-ND/1964135; Tolerance: 20%; Voltage: 35V; Price: 1.82; Device Package: Radial, Can, 16mm
footprint CAP AL TH D16 L7.5 H37
pins: 1, 2

## UFW1V471MPD1TD
designator C?, comment 470uF  (value not drawn)
CAP ALUM 470UF 20% 35V RADIAL; Part Number: UFW1V471MPD1TD; Manufacturer: Nichicon; TemperatureRange: -40C ~ 85C; Type: Polar; Ripple Current: 630mA @ 120Hz; Value: 470uF; PartId: 25051; Supplier 1: Digi-Key; Supplier Part Number 1: 493-11045-3-ND; ComponentLink1Description: Datasheet; ComponentLink1URL: http://nichicon-us.com/english/products/pdfs/e-ufw.pdf; ComponentLink2Description: Digi-Key Listing; ComponentLink2URL: https://www.digikey.com/product-detail/en/nichicon/UFW1V471MPD1TD/493-11045-3-ND/4317544; Tolerance: 20%; Voltage: 35V; Price: 0.2072; Device Package: Radial, Can, 10mm
footprint CAP AL TH D10 L5 H17.5
pins: 1, 2

## UFW2A101MPD1TD
designator C?, comment 100uF  (value not drawn)
CAP ALUM 100UF 20% 100V RADIAL; Part Number: UFW2A101MPD1TD; Manufacturer: Nichicon; TemperatureRange: -40C ~ 85C; Type: Polar; Ripple Current: 350mA @ 120Hz; Value: 100uF; PartId: 25772; Supplier 1: Digi-Key; Supplier Part Number 1: 493-11050-3-ND; ComponentLink1Description: Datasheet; ComponentLink1URL: http://nichicon-us.com/english/products/pdfs/e-ufw.pdf; ComponentLink2Description: Digi-Key Listing; ComponentLink2URL: https://www.digikey.com/product-detail/en/nichicon/UFW2A101MPD1TD/493-11050-3-ND/4317548; Tolerance: 20%; Voltage: 100V; Price: 0.2334; Device Package: Radial, Can, 10mm
footprint CAP AL TH D10 L5 H22
pins: 1, 2

## UFW2A221MHD1TO
designator C?, comment 220uF  (value not drawn)
CAP ALUM 220UF 20% 100V RADIAL; Part Number: UFW2A221MHD1TO; Manufacturer: Nichicon; TemperatureRange: -40C ~ 85C; Type: Polar; Ripple Current: 600mA; Value: 220uF; PartId: 24007; Supplier 1: Digi-Key; Supplier Part Number 1: 493-11052-1-ND; ComponentLink1Description: Datasheet; ComponentLink1URL: http://nichicon-us.com/english/products/pdfs/e-ufw.pdf; ComponentLink2Description: Digi-Key Listing; ComponentLink2URL: https://www.digikey.com/product-detail/en/nichicon/UFW2A221MHD1TO/493-11052-1-ND/4317949; Tolerance: 20%; Voltage: 100V; Price: 1.06; Device Package: Radial, Can, 12.5mm
footprint CAP AL TH D12.5 L5 H27
pins: 1, 2

## UFW2A222MRD
designator C?, comment 2200uF  (value not drawn)
CAP ALUM 2200UF 20% 100V RADIAL; Part Number: UFW2A222MRD; Manufacturer: Nichicon; TemperatureRange: -40C ~ 85C; Type: Polar; Ripple Current: 2.4A @ 120Hz; Value: 2200uF; PartId: 27676; Supplier 1: Digi-Key; Supplier Part Number 1: 493-11053-ND; ComponentLink1Description: Datasheet; ComponentLink1URL: http://nichicon-us.com/english/products/pdfs/e-ufw.pdf; ComponentLink2Description: Digi-Key Listing; ComponentLink2URL: https://www.digikey.com/product-detail/en/nichicon/UFW2A222MRD/493-11053-ND/1964188; Tolerance: 20%; Voltage: 100V; Price: 4.26; Device Package: Radial, Can, 22mm
footprint CAP AL TH D22 L10 H53
pins: 1, 2

## UFW2A331MHD1TO
designator C?, comment 330uF  (value not drawn)
CAP ALUM 330UF 20% 100V RADIAL; Part Number: UFW2A331MHD1TO; Manufacturer: Nichicon; TemperatureRange: -40C ~ 85C; Type: Polar; Ripple Current: 750mA; Value: 330uF; PartId: 24063; Supplier 1: Digi-Key; Supplier Part Number 1: 493-11056-1-ND; ComponentLink1Description: Datasheet; ComponentLink1URL: http://nichicon-us.com/english/products/pdfs/e-ufw.pdf; ComponentLink2Description: Digi-Key Listing; ComponentLink2URL: https://www.digikey.com/product-detail/en/nichicon/UFW2A331MHD1TO/493-11056-1-ND/4317952; Tolerance: 20%; Voltage: 100V; Price: 1.18; Device Package: Radial, Can, 12.5mm
footprint CAP AL TH D12.5 L5 H27
pins: 1, 2

## UFW2A332MRD
designator C?, comment 3300uF  (value not drawn)
CAP ALUM 3300UF 20% 100V RADIAL; Part Number: UFW2A332MRD; Manufacturer: Nichicon; TemperatureRange: -40C ~ 85C; Type: Polar; Ripple Current: 2.9A @ 120Hz; Value: 3300uF; PartId: 27526; Supplier 1: Digi-Key; Supplier Part Number 1: 493-11057-ND; ComponentLink1Description: Datasheet; ComponentLink1URL: http://nichicon-us.com/english/products/pdfs/e-ufw.pdf; ComponentLink2Description: Digi-Key Listing; ComponentLink2URL: https://www.digikey.com/product-detail/en/nichicon/UFW2A332MRD/493-11057-ND/1964189; Tolerance: 20%; Voltage: 100V; Price: 6.03; Device Package: Radial, Can, 25mm
footprint CAP AL TH D25 L12.5 H52
pins: 1, 2

## UFW2A470MPD1TD
designator C?, comment 47uF  (value not drawn)
CAP ALUM 47UF 20% 100V RADIAL; Part Number: UFW2A470MPD1TD; Manufacturer: Nichicon; TemperatureRange: -40C ~ 85C; Type: Polar; Ripple Current: 210mA @ 120Hz; Value: 47uF; PartId: 24507; Supplier 1: Digi-Key; Supplier Part Number 1: 493-11059-3-ND; ComponentLink1Description: Datasheet; ComponentLink1URL: http://nichicon-us.com/english/products/pdfs/e-ufw.pdf; ComponentLink2Description: Digi-Key Listing; ComponentLink2URL: https://www.digikey.com/product-detail/en/nichicon/UFW2A470MPD1TD/493-11059-3-ND/4317555; Tolerance: 20%; Voltage: 100V; Price: 0.1228; Device Package: Radial, Can, 10mm
footprint CAP AL TH D10 L5 H14.5
pins: 1, 2

## UHD1C102MPD
designator C?, comment 1000uF  (value not drawn)
CAP ALUM 1000UF 20% 16V RADIAL; Part Number: UHD1C102MPD; Manufacturer: Nichicon; TemperatureRange: -40C ~ 105C; Type: Polar; Ripple Current: 1.365A @ 120Hz; Impedance: 23 mOhm; Value: 1000uF; PartId: 25844; Supplier 1: Digi-Key; Supplier Part Number 1: 493-14467-ND; ComponentLink1Description: Datasheet; ComponentLink1URL: http://nichicon-us.com/english/products/pdfs/e-uhd.pdf; ComponentLink2Description: Digi-Key Listing; ComponentLink2URL: https://www.digikey.com/product-detail/en/nichicon/UHD1C102MPD/493-14467-ND/2598063; Tolerance: 20%; Voltage: 16V; Price: 0.51; Device Package: Radial, Can, 10mm
footprint CAP AL TH D10 L5 H22
pins: 1, 2

## UHD1C222MHD
designator C?, comment 2200uF  (value not drawn)
CAP ALUM 2200UF 20% 16V RADIAL; Part Number: UHD1C222MHD; Manufacturer: Nichicon; TemperatureRange: -40C ~ 105C; Type: Polar; Ripple Current: 2.216A @ 120Hz; Impedance: 18 mOhm; Value: 2200uF; PartId: 23878; Supplier 1: Digi-Key; Supplier Part Number 1: 493-13390-ND; ComponentLink1Description: Datasheet; ComponentLink1URL: http://nichicon-us.com/english/products/pdfs/e-uhd.pdf; ComponentLink2Description: Digi-Key Listing; ComponentLink2URL: https://www.digikey.com/product-detail/en/nichicon/UHD1C222MHD/493-13390-ND/2598067; Tolerance: 20%; Voltage: 16V; Price: 0.83; Device Package: Radial, Can, 12.5mm
footprint CAP AL TH D12.5 L5 H27
pins: 1, 2

## UHD1E471MPD6
designator C?, comment 470uF  (value not drawn)
CAP ALUM 470UF 20% 25V RADIAL; Part Number: UHD1E471MPD6; Manufacturer: Nichicon; TemperatureRange: -40C ~ 105C; Type: Polar; Ripple Current: 1.072A @ 120Hz; Impedance: 38 mOhm; Value: 470uF; PartId: 25147; Supplier 1: Digi-Key; Supplier Part Number 1: UHD1E471MPD6-ND; ComponentLink1Description: Datasheet; ComponentLink1URL: http://nichicon-us.com/english/products/pdfs/e-uhd.pdf; ComponentLink2Description: Digi-Key Listing; ComponentLink2URL: https://www.digikey.com/product-detail/en/nichicon/UHD1E471MPD6/UHD1E471MPD6-ND/2428132; Tolerance: 20%; Voltage: 25V; Price: 0.42; Device Package: Radial, Can, 10mm
footprint CAP AL TH D10 L5 H17.5
pins: 1, 2

## UHD1H221MPD
designator C?, comment 220uF  (value not drawn)
CAP ALUM 220UF 20% 50V RADIAL; Part Number: UHD1H221MPD; Manufacturer: Nichicon; TemperatureRange: -40C ~ 105C; Type: Polar; Ripple Current: 959mA @ 120Hz; Impedance: 42 mOhm; Value: 220uF; PartId: 25262; Supplier 1: Digi-Key; Supplier Part Number 1: 493-14469-ND; ComponentLink1Description: Datasheet; ComponentLink1URL: http://nichicon-us.com/english/products/pdfs/e-uhd.pdf; ComponentLink2Description: Digi-Key Listing; ComponentLink2URL: https://www.digikey.com/product-detail/en/nichicon/UHD1H221MPD/493-14469-ND/2598098; Tolerance: 20%; Voltage: 50V; Price: 0.59; Device Package: Radial, Can, 10mm
footprint CAP AL TH D10 L5 H17.5
pins: 1, 2

## UHD1H471MHD
designator C?, comment 470uF  (value not drawn)
CAP ALUM 470UF 20% 50V RADIAL; Part Number: UHD1H471MHD; Manufacturer: Nichicon; TemperatureRange: -40C ~ 105C; Type: Polar; Ripple Current: 1.538A @ 120Hz; Impedance: 27 mOhm; Value: 470uF; PartId: 23355; Supplier 1: Digi-Key; Supplier Part Number 1: 493-14470-ND; ComponentLink1Description: Datasheet; ComponentLink1URL: http://nichicon-us.com/english/products/pdfs/e-uhd.pdf; ComponentLink2Description: Digi-Key Listing; ComponentLink2URL: https://www.digikey.com/product-detail/en/nichicon/UHD1H471MHD/493-14470-ND/2598101; Tolerance: 20%; Voltage: 50V; Price: 0.85; Device Package: Radial, Can, 12.5mm
footprint CAP AL TH D12.5 L5 H22
pins: 1, 2

## UHD1V102MHD
designator C?, comment 1000uF  (value not drawn)
CAP ALUM 1000UF 20% 35V RADIAL; Part Number: UHD1V102MHD; Manufacturer: Nichicon; TemperatureRange: -40C ~ 105C; Type: Polar; Ripple Current: 2.078A @ 120Hz; Impedance: 18 mOhm; Value: 1000uF; PartId: 23612; Supplier 1: Digi-Key; Supplier Part Number 1: UHD1V102MHD-ND; ComponentLink1Description: Datasheet; ComponentLink1URL: http://nichicon-us.com/english/products/pdfs/e-uhd.pdf; ComponentLink2Description: Digi-Key Listing; ComponentLink2URL: https://www.digikey.com/product-detail/en/nichicon/UHD1V102MHD/UHD1V102MHD-ND/2428131; Tolerance: 20%; Voltage: 35V; Price: 1.14; Device Package: Radial, Can, 12.5mm
footprint CAP AL TH D12.5 L5 H25
pins: 1, 2

## UHD1V182MHD
designator C?, comment 1800uF  (value not drawn)
CAP ALUM 1800UF 20% 35V RADIAL; Part Number: UHD1V182MHD; Manufacturer: Nichicon; TemperatureRange: -40C ~ 105C; Type: Polar; Ripple Current: 2.768A @ 120Hz; Impedance: 16 mOhm; Value: 1800uF; PartId: 26653; Supplier 1: Digi-Key; Supplier Part Number 1: UHD1V182MHD-ND; ComponentLink1Description: Datasheet; ComponentLink1URL: http://nichicon-us.com/english/products/pdfs/e-uhd.pdf; ComponentLink2Description: Digi-Key Listing; ComponentLink2URL: https://www.digikey.com/product-detail/en/nichicon/UHD1V182MHD/UHD1V182MHD-ND/2428130; Tolerance: 20%; Voltage: 35V; Price: 1.57; Device Package: Radial, Can, 16mm
footprint CAP AL TH D16 L7.5 H26.5
pins: 1, 2

## UHD1V471MPD
designator C?, comment 470uF  (value not drawn)
CAP ALUM 470UF 20% 35V RADIAL; Part Number: UHD1V471MPD; Manufacturer: Nichicon; TemperatureRange: -40C ~ 105C; Type: Polar; Ripple Current: 1.365A @ 120Hz; Impedance: 23 mOhm; Value: 470uF; PartId: 25951; Supplier 1: Digi-Key; Supplier Part Number 1: 493-14471-ND; ComponentLink1Description: Datasheet; ComponentLink1URL: http://nichicon-us.com/english/products/pdfs/e-uhd.pdf; ComponentLink2Description: Digi-Key Listing; ComponentLink2URL: https://www.digikey.com/product-detail/en/nichicon/UHD1V471MPD/493-14471-ND/2598116; Tolerance: 20%; Voltage: 35V; Price: 0.76; Device Package: Radial, Can, 10mm
footprint CAP AL TH D10 L5 H22
pins: 1, 2

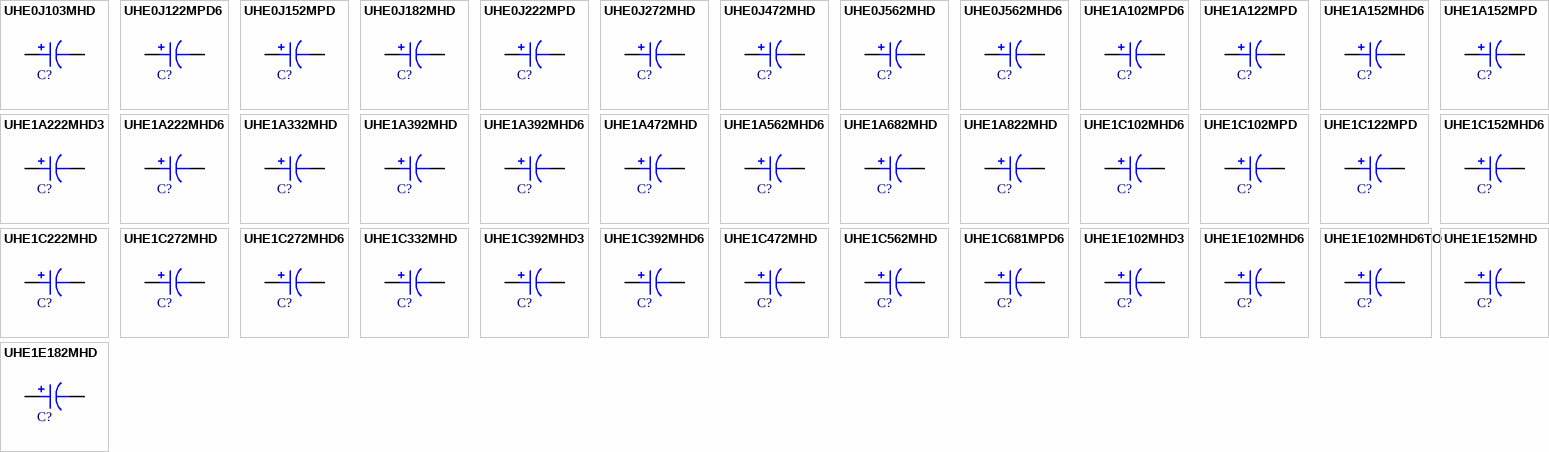
[diagram p70: symbols UHE0J103MHD to UHE1E182MHD]

## UHE0J103MHD
designator C?, comment 10000uF  (value not drawn)
CAP ALUM 10000UF 20% 6.3V RADIAL; Part Number: UHE0J103MHD; Manufacturer: Nichicon; TemperatureRange: -40C ~ 105C; Type: Polar; Ripple Current: 2.888A @ 120Hz; Impedance: 15 mOhm; Value: 10000uF; PartId: 27341; Supplier 1: Digi-Key; Supplier Part Number 1: 493-1485-ND; ComponentLink1Description: Datasheet; ComponentLink1URL: http://nichicon-us.com/english/products/pdfs/e-uhe.pdf; ComponentLink2Description: Digi-Key Listing; ComponentLink2URL: https://www.digikey.com/product-detail/en/nichicon/UHE0J103MHD/493-1485-ND/589226; Tolerance: 20%; Voltage: 6.3V; Price: 1.67; Device Package: Radial, Can, 16mm
footprint CAP AL TH D16 L7.5 H37
pins: 1, 2

## UHE0J122MPD6
designator C?, comment 1200uF  (value not drawn)
CAP ALUM 1200UF 20% 6.3V RADIAL; Part Number: UHE0J122MPD6; Manufacturer: Nichicon; TemperatureRange: -40C ~ 105C; Type: Polar; Ripple Current: 968mA @ 120Hz; Impedance: 60 mOhm; Value: 1200uF; PartId: 25212; Supplier 1: Digi-Key; Supplier Part Number 1: 493-1469-ND; ComponentLink1Description: Datasheet; ComponentLink1URL: http://nichicon-us.com/english/products/pdfs/e-uhe.pdf; ComponentLink2Description: Digi-Key Listing; ComponentLink2URL: https://www.digikey.com/product-detail/en/nichicon/UHE0J122MPD6/493-1469-ND/589210; Tolerance: 20%; Voltage: 6.3V; Price: 0.52; Device Package: Radial, Can, 10mm
footprint CAP AL TH D10 L5 H17.5
pins: 1, 2

## UHE0J152MPD
designator C?, comment 1500uF  (value not drawn)
CAP ALUM 1500UF 20% 6.3V RADIAL; Part Number: UHE0J152MPD; Manufacturer: Nichicon; TemperatureRange: -40C ~ 105C; Type: Polar; Ripple Current: 1.12A @ 120Hz; Impedance: 46 mOhm; Value: 1500uF; PartId: 25509; Supplier 1: Digi-Key; Supplier Part Number 1: 493-1470-ND; ComponentLink1Description: Datasheet; ComponentLink1URL: http://nichicon-us.com/english/products/pdfs/e-uhe.pdf; ComponentLink2Description: Digi-Key Listing; ComponentLink2URL: https://www.digikey.com/product-detail/en/nichicon/UHE0J152MPD/493-1470-ND/589211; Tolerance: 20%; Voltage: 6.3V; Price: 0.52; Device Package: Radial, Can, 10mm
footprint CAP AL TH D10 L5 H22
pins: 1, 2

## UHE0J182MHD
designator C?, comment 1800uF  (value not drawn)
CAP ALUM 1800UF 20% 6.3V RADIAL; Part Number: UHE0J182MHD; Manufacturer: Nichicon; TemperatureRange: -40C ~ 105C; Type: Polar; Ripple Current: 1.16A @ 120Hz; Impedance: 49 mOhm; Value: 1800uF; PartId: 22704; Supplier 1: Digi-Key; Supplier Part Number 1: 493-1471-ND; ComponentLink1Description: Datasheet; ComponentLink1URL: http://nichicon-us.com/english/products/pdfs/e-uhe.pdf; ComponentLink2Description: Digi-Key Listing; ComponentLink2URL: https://www.digikey.com/product-detail/en/nichicon/UHE0J182MHD/493-1471-ND/589212; Tolerance: 20%; Voltage: 6.3V; Price: 0; Device Package: Radial, Can, 12.5mm
footprint CAP AL TH D12.5 L5 H15
pins: 1, 2

## UHE0J222MPD
designator C?, comment 2200uF  (value not drawn)
CAP ALUM 2200UF 20% 6.3V RADIAL; Part Number: UHE0J222MPD; Manufacturer: Nichicon; TemperatureRange: -40C ~ 105C; Type: Polar; Ripple Current: 1.32A @ 120Hz; Impedance: 42 mOhm; Value: 2200uF; PartId: 26063; Supplier 1: Digi-Key; Supplier Part Number 1: 493-1472-ND; ComponentLink1Description: Datasheet; ComponentLink1URL: http://nichicon-us.com/english/products/pdfs/e-uhe.pdf; ComponentLink2Description: Digi-Key Listing; ComponentLink2URL: https://www.digikey.com/product-detail/en/nichicon/UHE0J222MPD/493-1472-ND/589213; Tolerance: 20%; Voltage: 6.3V; Price: 0.68; Device Package: Radial, Can, 10mm
footprint CAP AL TH D10 L5 H30
pins: 1, 2